# Altium schematic symbol library Schlib1.SchLib: 5 symbols
Pins are listed as number, name and electrical type; pins without a type are passive.

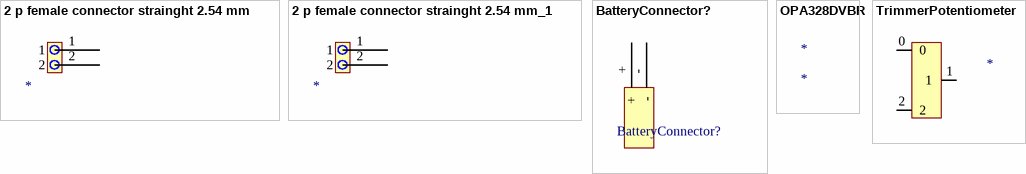
[diagram p0: symbols 2 p female connector strainght 2.54 mm to TrimmerPotentiometer]

## 2 p female connector strainght 2.54 mm
designator 2 p female connector strainght  2.5 mm
2 p female connector strainght 2.54 mm
footprint 2 p female connector strainght  7.54 mm (Footprint not found)
pins: 1, 2

## 2 p female connector strainght 2.54 mm_1
designator 2 p female connector strainght  2.5 mm
2 p female connector strainght 2.54 mm
footprint 2 p female connector strainght  2.54 mm
pins: 1, 2

## BatteryConnector?
designator BatteryConnector?, comment useful for 9 V and buttton battery holder  (value not drawn)
footprint BatteryConnector?
pins: + (power), - (power)

## OPA328DVBR
designator *

## TrimmerPotentiometer
designator TrimmerPotentiometer
footprint TrimmerPotentiometer
pins: 0, 1, 2